# EAGLE library part BQ76940 (library misc)
Description: bq769x0 from TI is a multi-cell battery monitoring chipset.
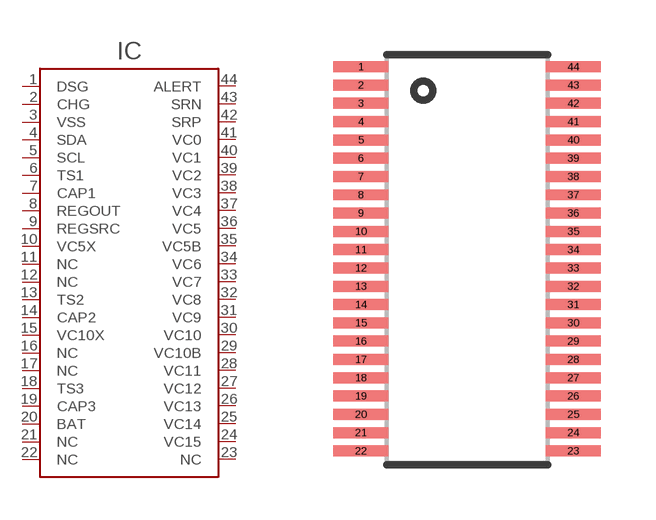
[diagram p83: symbol with the pads of TSSOP44; footprint TSSOP44]

Designator prefix IC

## BQ7694040 (LCSC#: C368606; MANF: Texas Instruments; MANF#: BQ7694003DBTR)  [TSSOP44]
1  DSG
2  CHG
3  VSS
4  SDA
5  SCL
6  TS1
7  CAP1
8  REGOUT
9  REGSRC
10  VC5X
11  NC
12  NC
13  TS2
14  CAP2
15  VC10X
16  NC
17  NC
18  TS3
19  CAP3
20  BAT
21  NC
22  NC
23  NC
24  VC15
25  VC14
26  VC13
27  VC12
28  VC11
29  VC10B
30  VC10
31  VC9
32  VC8
33  VC7
34  VC6
35  VC5B
36  VC5
37  VC4
38  VC3
39  VC2
40  VC1
41  VC0
42  SRP
43  SRN
44  ALERT

## Footprint TSSOP44 (pad centres in mm)
smd 1.5 x 0.3: 1 -2.9,5.25; 2 -2.9,4.75; 3 -2.9,4.25; 4 -2.9,3.75; 5 -2.9,3.25; 6 -2.9,2.75; 7 -2.9,2.25; 8 -2.9,1.75; 9 -2.9,1.25; 10 -2.9,0.75; 11 -2.9,0.25; 12 -2.9,-0.25; 13 -2.9,-0.75; 14 -2.9,-1.25; 15 -2.9,-1.75; 16 -2.9,-2.25; 17 -2.9,-2.75; 18 -2.9,-3.25; 19 -2.9,-3.75; 20 -2.9,-4.25; 21 -2.9,-4.75; 22 -2.9,-5.25; 23 2.9,-5.25; 24 2.9,-4.75; 25 2.9,-4.25; 26 2.9,-3.75; 27 2.9,-3.25; 28 2.9,-2.75; 29 2.9,-2.25; 30 2.9,-1.75; 31 2.9,-1.25; 32 2.9,-0.75; 33 2.9,-0.25; 34 2.9,0.25; 35 2.9,0.75; 36 2.9,1.25; 37 2.9,1.75; 38 2.9,2.25; 39 2.9,2.75; 40 2.9,3.25; 41 2.9,3.75; 42 2.9,4.25; 43 2.9,4.75; 44 2.9,5.25